# Altium footprint library Resistors.PcbLib: 8 footprints
Each footprint in its own frame and in the unit in brackets; x right, y up, seen from the top. Pads: shape width x height; smd on the part's side, far side on the other; paste and mask are expansions set on the pad; w line width, h text height; cw(c..) or ccw(c..) is an arc to the next point about the centre after c.
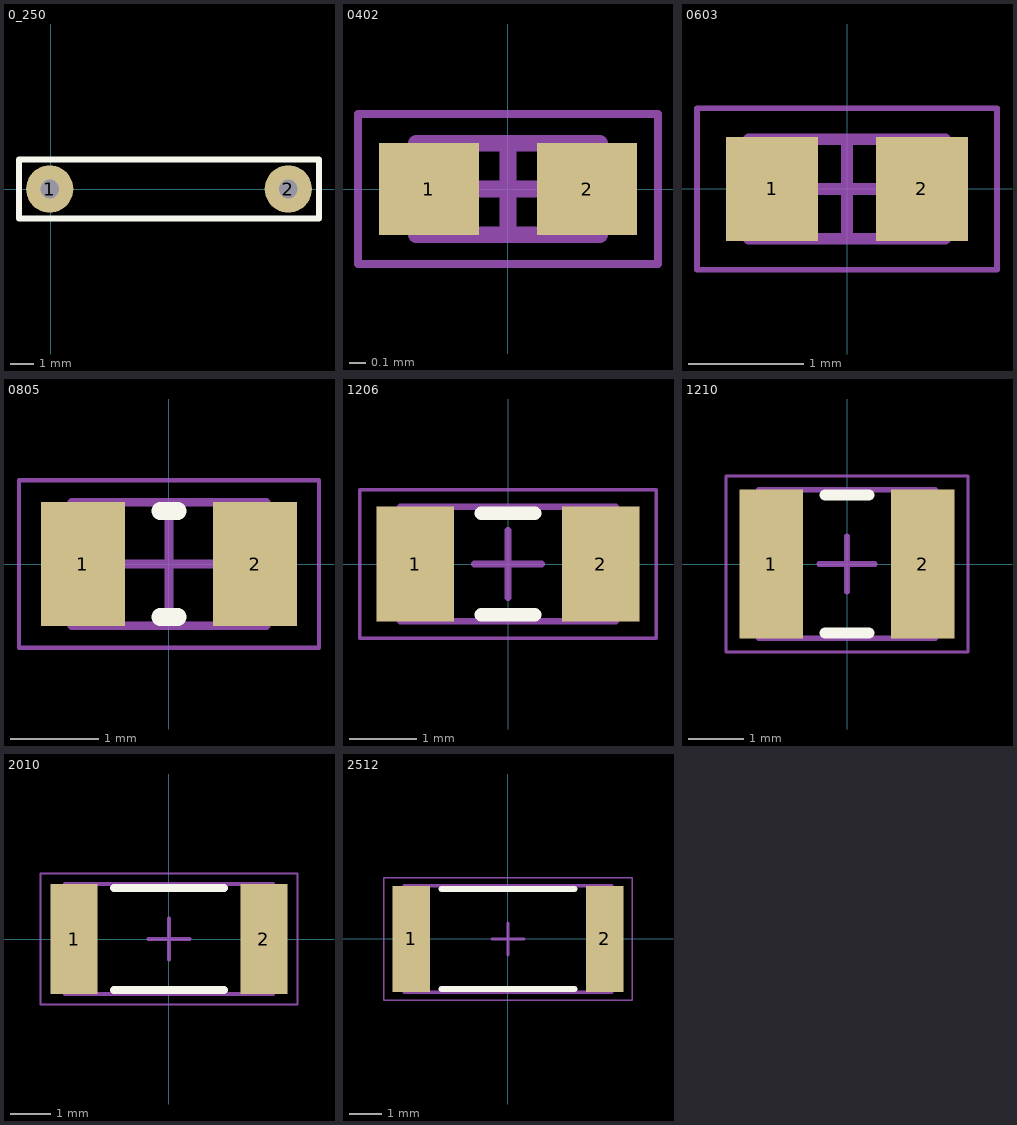
[diagram p0: the footprints below, top view; thin cyan lines are the x and y axes]

## 0_250 [mm] "Резистор выводной 0.25w"
pads (2):
  round 2 hole 0.8: 1(-0.05,0) 2(10.05,0)
Top Overlay:
  lines w0.254: -1.35,-1.25 -1.35,1.25 11.35,1.25 11.35,-1.25 -1.35,-1.25
3D body "0_250.sldprt": height 2.93, standoff -2.54, extent -0.359,-1.175 10.409,1.127
3D body: height 0.25, standoff 0, extent 3.1,2.575 3.1,2.575

## 0402 [mm]
height 0.35
pads (2):
  rect 0.6x0.55 smd: 1(-0.475,0) 2(0.475,0)
Top Assy:
  lines w0.1: -0.55,-0.275 -0.55,0.275 0.55,0.275 0.55,-0.275 -0.55,-0.275
Top ConturComponent:
  lines w0.05: -0.9,-0.45 -0.9,0.45 0.9,0.45 0.9,-0.45 -0.9,-0.45
  lines w0.1: -0.275,0 0.275,0 ; 0,-0.275 0,0.275
3D body "0402_res.step": height 0.35, standoff 0, extent -0.55,-0.275 0.55,0.275

## 0603 [mm]
height 0.45
pads (2):
  rect 0.8x0.9 smd: 1(-0.65,0) 2(0.65,0)
Top Assy:
  lines w0.1: -0.85,-0.43 0.85,-0.43 0.85,0.43 -0.85,0.43 -0.85,-0.43
Top ConturComponent:
  lines w0.05: -1.3,-0.7 1.3,-0.7 1.3,0.7 -1.3,0.7 -1.3,-0.7
  lines w0.1: -0.43,0 0.43,0 ; 0,-0.43 0,0.43
3D body "0603_res.step": height 0.45, standoff 0, extent -0.85,-0.43 0.85,0.43

## 0805 [mm]
height 0.45
pads (2):
  rect 0.95x1.4 smd: 1(-0.975,0) 2(0.975,0)
Top Overlay:
  lines w0.2: -0.1,-0.6 0.1,-0.6 ; -0.1,0.6 0.1,0.6
Top Assy:
  lines w0.1: -1.1,-0.7 -1.1,0.7 1.1,0.7 1.1,-0.7 -1.1,-0.7
Top ConturComponent:
  lines w0.05: -1.7,-0.95 -1.7,0.95 1.7,0.95 1.7,-0.95 -1.7,-0.95
  lines w0.1: -0.5,0 0.5,0 ; 0,-0.5 0,0.5
3D body "0805_res.step": height 0.45, standoff 0, extent -1.1,-0.7 1.1,0.7

## 1206 [mm]
height 0.55
pads (2):
  rect 1.15x1.7 smd: 1(-1.375,0) 2(1.375,0)
Top Overlay:
  lines w0.2: -0.4,-0.75 0.4,-0.75 ; -0.4,0.75 0.4,0.75
Top Assy:
  lines w0.1: -1.6,-0.85 -1.6,0.85 1.6,0.85 1.6,-0.85 -1.6,-0.85
Top ConturComponent:
  lines w0.05: -2.2,-1.1 -2.2,1.1 2.2,1.1 2.2,-1.1 -2.2,-1.1
  lines w0.1: -0.5,0 0.5,0 ; 0,-0.5 0,0.5
3D body "1206_res.step": height 0.55, standoff 0, extent -1.6,-0.85 1.6,0.85

## 1210 [mm]
height 0.55
pads (2):
  rect 1.15x2.7 smd: 1(-1.375,0) 2(1.375,0)
Top Overlay:
  lines w0.2: -0.4,-1.25 0.4,-1.25 ; -0.4,1.25 0.4,1.25
Top Assy:
  lines w0.1: -1.6,-1.35 -1.6,1.35 1.6,1.35 1.6,-1.35 -1.6,-1.35
Top ConturComponent:
  lines w0.05: -2.2,-1.6 -2.2,1.6 2.2,1.6 2.2,-1.6 -2.2,-1.6
  lines w0.1: -0.5,0 0.5,0 ; 0,-0.5 0,0.5
3D body "1210_res.step": height 0.55, standoff 0, extent -1.6,-1.35 1.6,1.35

## 2010 [mm]
height 0.55
pads (2):
  rect 1.15x2.7 smd: 1(-2.325,0) 2(2.325,0)
Top Overlay:
  lines w0.2: -1.35,-1.25 1.35,-1.25 ; -1.35,1.25 1.35,1.25
Top Assy:
  lines w0.1: -2.55,-1.35 -2.55,1.35 2.55,1.35 2.55,-1.35 -2.55,-1.35
Top ConturComponent:
  lines w0.05: -3.15,-1.6 -3.15,1.6 3.15,1.6 3.15,-1.6 -3.15,-1.6
  lines w0.1: -0.5,0 0.5,0 ; 0,-0.5 0,0.5
3D body "2010_res.step": height 0.55, standoff 0, extent -2.55,-1.35 2.55,1.35

## 2512 [mm]
height 0.55
pads (2):
  rect 1.15x3.3 smd: 1(-3,0) 2(3,0)
Top Overlay:
  lines w0.2: -2.05,-1.55 2.05,-1.55 ; -2.05,1.55 2.05,1.55
Top Assy:
  lines w0.1: -3.225,-1.65 3.225,-1.65 3.225,1.65 -3.225,1.65 -3.225,-1.65
Top ConturComponent:
  lines w0.05: -3.85,-1.9 3.85,-1.9 3.85,1.9 -3.85,1.9 -3.85,-1.9
  lines w0.1: -0.5,0 0.5,0 ; 0,-0.5 0,0.5
3D body "2512_res.step": height 0.55, standoff 0, extent -3.225,-1.65 3.225,1.65